# Altium schematic symbol library SCH - MCU - ATSAM - MICROCHIP ATSAME70N21A-AN LQFP100.SchLib: 1 symbol
Pins are listed as number, name and electrical type; pins without a type are passive.

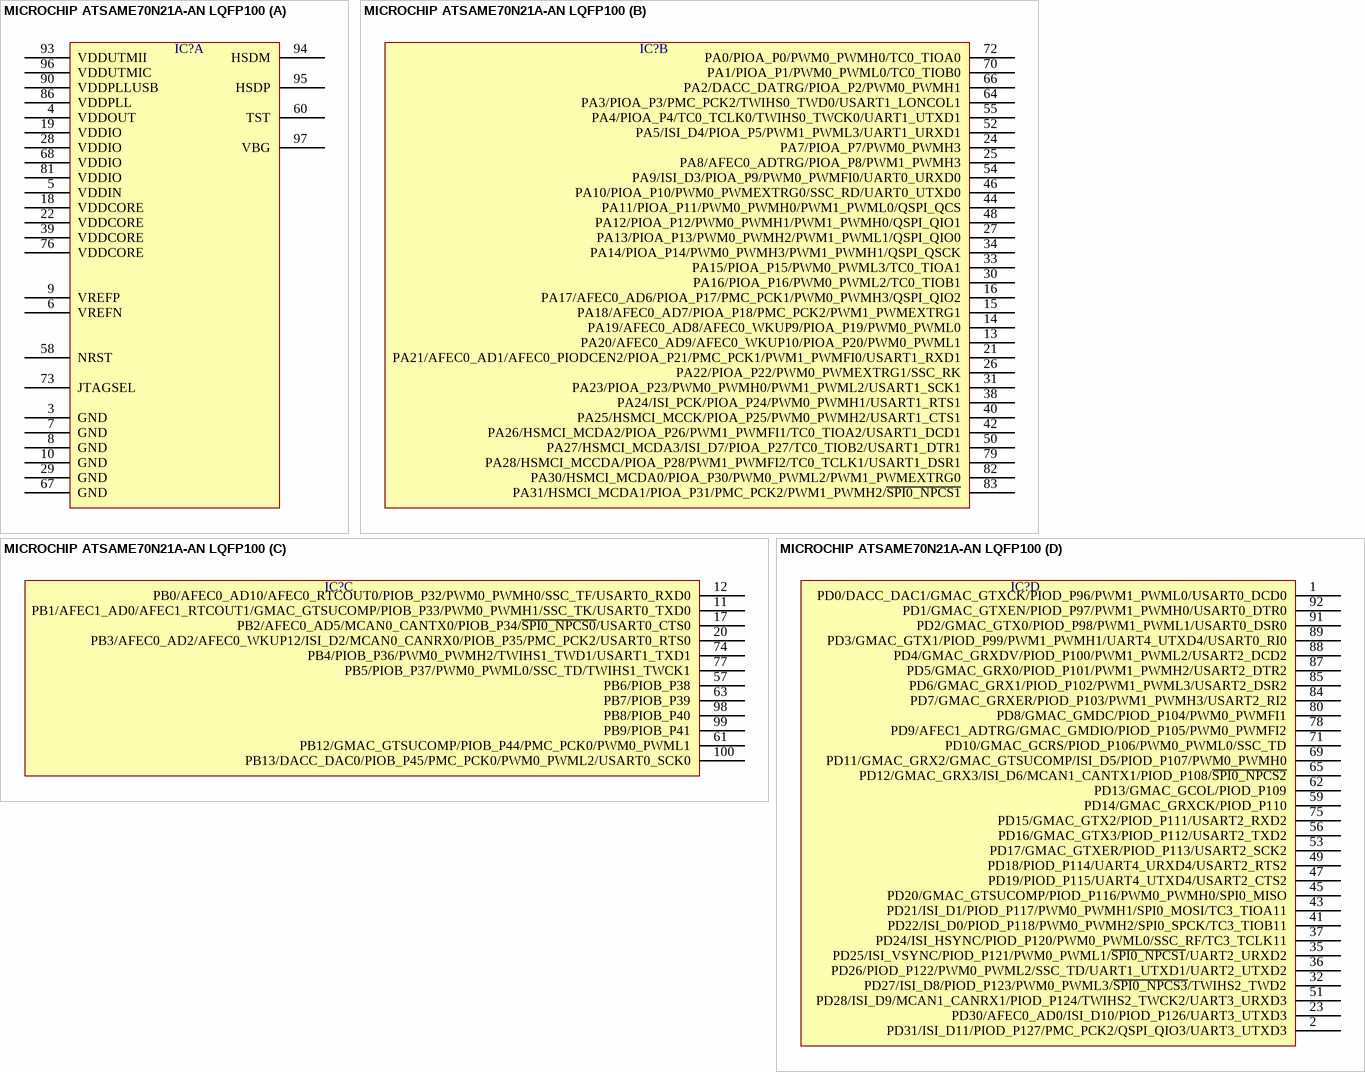
[diagram p0: symbol MICROCHIP ATSAME70N21A-AN LQFP100]

## MICROCHIP ATSAME70N21A-AN LQFP100
designator IC?  (value not drawn)
part A pins: 3 GND, 4 VDDOUT, 5 VDDIN, 6 VREFN, 7 GND, 8 GND, 9 VREFP, 10 GND, 18 VDDCORE, 19 VDDIO, 22 VDDCORE, 28 VDDIO, 29 GND, 39 VDDCORE, 58 NRST, 60 TST, 67 GND, 68 VDDIO, 73 JTAGSEL, 76 VDDCORE, 81 VDDIO, 86 VDDPLL, 90 VDDPLLUSB, 93 VDDUTMII, 94 HSDM, 95 HSDP, 96 VDDUTMIC, 97 VBG
part B pins: 13 PA20/AFEC0_AD9/AFEC0_WKUP10/PIOA_P20/PWM0_PWML1, 14 PA19/AFEC0_AD8/AFEC0_WKUP9/PIOA_P19/PWM0_PWML0, 15 PA18/AFEC0_AD7/PIOA_P18/PMC_PCK2/PWM1_PWMEXTRG1, 16 PA17/AFEC0_AD6/PIOA_P17/PMC_PCK1/PWM0_PWMH3/QSPI_QIO2, 21 PA21/AFEC0_AD1/AFEC0_PIODCEN2/PIOA_P21/PMC_PCK1/PWM1_PWMFI0/USART1_RXD1, 24 PA7/PIOA_P7/PWM0_PWMH3, 25 PA8/AFEC0_ADTRG/PIOA_P8/PWM1_PWMH3, 26 PA22/PIOA_P22/PWM0_PWMEXTRG1/SSC_RK, 27 PA13/PIOA_P13/PWM0_PWMH2/PWM1_PWML1/QSPI_QIO0, 30 PA16/PIOA_P16/PWM0_PWML2/TC0_TIOB1, 31 PA23/PIOA_P23/PWM0_PWMH0/PWM1_PWML2/USART1_SCK1, 33 PA15/PIOA_P15/PWM0_PWML3/TC0_TIOA1, 34 PA14/PIOA_P14/PWM0_PWMH3/PWM1_PWMH1/QSPI_QSCK, 38 PA24/ISI_PCK/PIOA_P24/PWM0_PWMH1/USART1_RTS1, 40 PA25/HSMCI_MCCK/PIOA_P25/PWM0_PWMH2/USART1_CTS1, 42 PA26/HSMCI_MCDA2/PIOA_P26/PWM1_PWMFI1/TC0_TIOA2/USART1_DCD1, 44 PA11/PIOA_P11/PWM0_PWMH0/PWM1_PWML0/QSPI_QCS, 46 PA10/PIOA_P10/PWM0_PWMEXTRG0/SSC_RD/UART0_UTXD0, 48 PA12/PIOA_P12/PWM0_PWMH1/PWM1_PWMH0/QSPI_QIO1, 50 PA27/HSMCI_MCDA3/ISI_D7/PIOA_P27/TC0_TIOB2/USART1_DTR1, 52 PA5/ISI_D4/PIOA_P5/PWM1_PWML3/UART1_URXD1, 54 PA9/ISI_D3/PIOA_P9/PWM0_PWMFI0/UART0_URXD0, 55 PA4/PIOA_P4/TC0_TCLK0/TWIHS0_TWCK0/UART1_UTXD1, 64 PA3/PIOA_P3/PMC_PCK2/TWIHS0_TWD0/USART1_LONCOL1, 66 PA2/DACC_DATRG/PIOA_P2/PWM0_PWMH1, 70 PA1/PIOA_P1/PWM0_PWML0/TC0_TIOB0, 72 PA0/PIOA_P0/PWM0_PWMH0/TC0_TIOA0, 79 PA28/HSMCI_MCCDA/PIOA_P28/PWM1_PWMFI2/TC0_TCLK1/USART1_DSR1, 82 PA30/HSMCI_MCDA0/PIOA_P30/PWM0_PWML2/PWM1_PWMEXTRG0, 83 PA31/HSMCI_MCDA1/PIOA_P31/PMC_PCK2/PWM1_PWMH2/~{SPI0_NPCS1}
part C pins: 11 PB1/AFEC1_AD0/AFEC1_RTCOUT1/GMAC_GTSUCOMP/PIOB_P33/PWM0_PWMH1/SSC_TK/USART0_TXD0, 12 PB0/AFEC0_AD10/AFEC0_RTCOUT0/PIOB_P32/PWM0_PWMH0/SSC_TF/USART0_RXD0, 17 PB2/AFEC0_AD5/MCAN0_CANTX0/PIOB_P34/~{SPI0_NPCS0}/USART0_CTS0, 20 PB3/AFEC0_AD2/AFEC0_WKUP12/ISI_D2/MCAN0_CANRX0/PIOB_P35/PMC_PCK2/USART0_RTS0, 57 PB6/PIOB_P38, 61 PB12/GMAC_GTSUCOMP/PIOB_P44/PMC_PCK0/PWM0_PWML1, 63 PB7/PIOB_P39, 74 PB4/PIOB_P36/PWM0_PWMH2/TWIHS1_TWD1/USART1_TXD1, 77 PB5/PIOB_P37/PWM0_PWML0/SSC_TD/TWIHS1_TWCK1, 98 PB8/PIOB_P40, 99 PB9/PIOB_P41, 100 PB13/DACC_DAC0/PIOB_P45/PMC_PCK0/PWM0_PWML2/USART0_SCK0
part D pins: 1 PD0/DACC_DAC1/GMAC_GTXCK/PIOD_P96/PWM1_PWML0/USART0_DCD0, 2 PD31/ISI_D11/PIOD_P127/PMC_PCK2/QSPI_QIO3/UART3_UTXD3, 23 PD30/AFEC0_AD0/ISI_D10/PIOD_P126/UART3_UTXD3, 32 PD27/ISI_D8/PIOD_P123/PWM0_PWML3/~{SPI0_NPCS3}/TWIHS2_TWD2, 35 PD25/ISI_VSYNC/PIOD_P121/PWM0_PWML1/~{SPI0_NPCS1}/UART2_URXD2, 36 PD26/PIOD_P122/PWM0_PWML2/SSC_TD/UART1_UTXD1/UART2_UTXD2, 37 PD24/ISI_HSYNC/PIOD_P120/PWM0_PWML0/SSC_RF/TC3_TCLK11, 41 PD22/ISI_D0/PIOD_P118/PWM0_PWMH2/SPI0_SPCK/TC3_TIOB11, 43 PD21/ISI_D1/PIOD_P117/PWM0_PWMH1/SPI0_MOSI/TC3_TIOA11, 45 PD20/GMAC_GTSUCOMP/PIOD_P116/PWM0_PWMH0/SPI0_MISO, 47 PD19/PIOD_P115/UART4_UTXD4/USART2_CTS2, 49 PD18/PIOD_P114/UART4_URXD4/USART2_RTS2, 51 PD28/ISI_D9/MCAN1_CANRX1/PIOD_P124/TWIHS2_TWCK2/UART3_URXD3, 53 PD17/GMAC_GTXER/PIOD_P113/USART2_SCK2, 56 PD16/GMAC_GTX3/PIOD_P112/USART2_TXD2, 59 PD14/GMAC_GRXCK/PIOD_P110, 62 PD13/GMAC_GCOL/PIOD_P109, 65 PD12/GMAC_GRX3/ISI_D6/MCAN1_CANTX1/PIOD_P108/~{SPI0_NPCS2}, 69 PD11/GMAC_GRX2/GMAC_GTSUCOMP/ISI_D5/PIOD_P107/PWM0_PWMH0, 71 PD10/GMAC_GCRS/PIOD_P106/PWM0_PWML0/SSC_TD, 75 PD15/GMAC_GTX2/PIOD_P111/USART2_RXD2, 78 PD9/AFEC1_ADTRG/GMAC_GMDIO/PIOD_P105/PWM0_PWMFI2, 80 PD8/GMAC_GMDC/PIOD_P104/PWM0_PWMFI1, 84 PD7/GMAC_GRXER/PIOD_P103/PWM1_PWMH3/USART2_RI2, 85 PD6/GMAC_GRX1/PIOD_P102/PWM1_PWML3/USART2_DSR2, 87 PD5/GMAC_GRX0/PIOD_P101/PWM1_PWMH2/USART2_DTR2, 88 PD4/GMAC_GRXDV/PIOD_P100/PWM1_PWML2/USART2_DCD2, 89 PD3/GMAC_GTX1/PIOD_P99/PWM1_PWMH1/UART4_UTXD4/USART0_RI0, 91 PD2/GMAC_GTX0/PIOD_P98/PWM1_PWML1/USART0_DSR0, 92 PD1/GMAC_GTXEN/PIOD_P97/PWM1_PWMH0/USART0_DTR0